# Altium footprint library QFN50P300X250X100_HS-15N.PcbLib: 1 footprints
Each footprint in its own frame and in the unit in brackets; x right, y up, seen from the top. Pads: shape width x height; smd on the part's side, far side on the other; paste and mask are expansions set on the pad; w line width, h text height; cw(c..) or ccw(c..) is an arc to the next point about the centre after c.
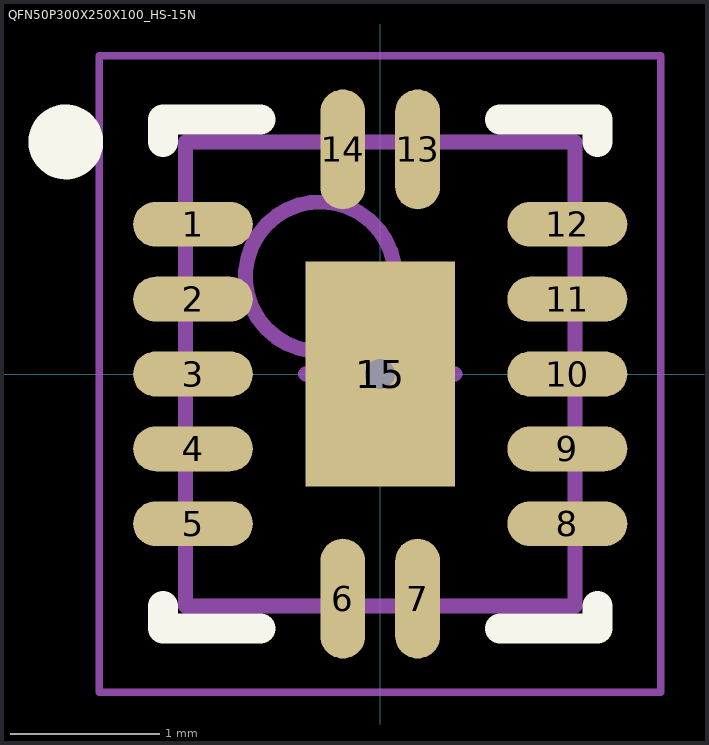
[diagram p0: the footprint, top view; thin cyan lines are the x and y axes]

## QFN50P300X250X100_HS-15N [mm] "QFN, 14-Leads, Body 3.00x2.50mm, Pitch 0.50mm, Thermal Pad 1.50x1.00mm, IPC Medium Density"
height 1
pads (15):
  oval 0.8x0.3 smd: 1(-1.25,1) 2(-1.25,0.5) 3(-1.25,0) 4(-1.25,-0.5) 5(-1.25,-1) 8(1.25,-1) 9(1.25,-0.5) 10(1.25,0) 11(1.25,0.5) 12(1.25,1)
  oval 0.3x0.8 smd: 6(-0.25,-1.5) 7(0.25,-1.5) 13(0.25,1.5) 14(-0.25,1.5)
  rect 1x1.5 smd: 15(0,0)
via 0,0 diameter 0.5 hole 0.2
Top Overlay:
  circle w0.25: c-2.1,1.55 r0.125
  lines w0.2: -1.45,-1.55 -1.45,-1.7 -0.8,-1.7 ; -1.45,1.55 -1.45,1.7 -0.8,1.7 ; 0.8,-1.7 1.45,-1.7 1.45,-1.55 ; 0.8,1.7 1.45,1.7 1.45,1.55
Mechanical 13:
  circle w0.1: c-0.4,0.65 r0.5
  lines w0.1: -1.3,-1.55 1.3,-1.55 1.3,1.55 -1.3,1.55 -1.3,-1.55
Mechanical 15:
  lines w0.05: -1.875,-2.125 1.875,-2.125 1.875,2.125 -1.875,2.125 -1.875,-2.125
  lines w0.1: -0.5,0 0.5,0 ; 0,-0.5 0,0.5
3D body: height 0.85, standoff -0.02, extent -1.25,-1.501 1.252,1.501